# Altium integrated library Lattice Semiconductor ispMACH 4000ZE.IntLib: 56 symbols (part 3 of 3)
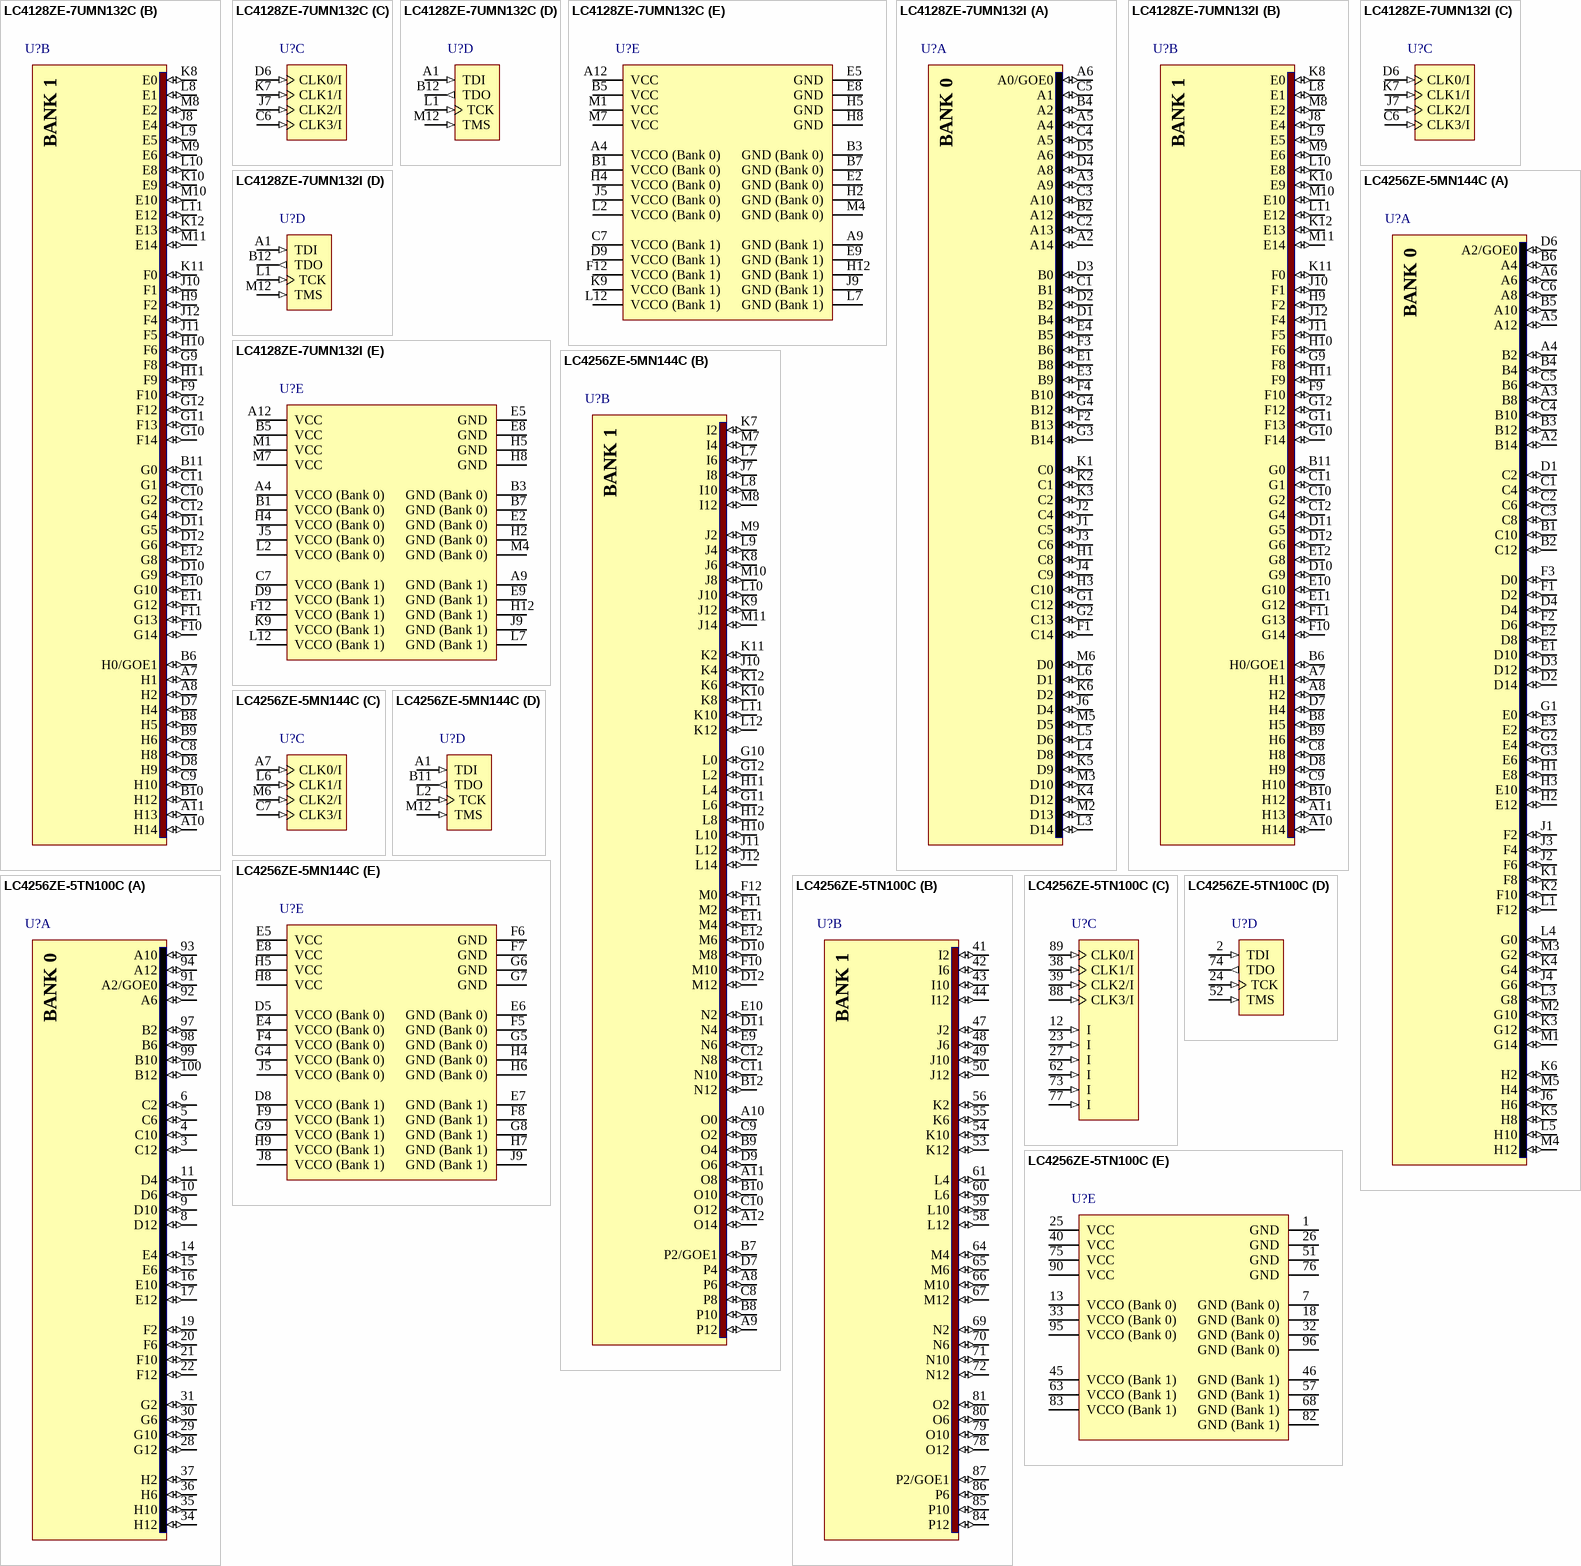
[diagram p16: symbols LC4128ZE-7UMN132C to LC4256ZE-5TN100C]

## LC4128ZE-7UMN132I
designator U?
ispMACH 4000ZE Ultra Low Power PLD, 1.8V, 96 User I/Os, 132-Pin ucBGA, 7.5ns, Industrial Grade, Pb-Free; DatasheetVersion: ver01.4, May-2009; PackageVersion: ver02.6, Nov-2010; PackageReference: ucBGA132; PackageDescription: 132-Ball ucBGA Package, 6 x 6 mm Body, 0.4 mm Pitch; ComponentLink1Description: Manufacturer URL; ComponentLink1URL: http://www.latticesemi.com/; ComponentLink2Description: Datasheet; ComponentLink2URL: http://www.latticesemi.com/documents/DS1022.pdf; ComponentLink3Description: Package Specification; ComponentLink3URL: http://www.latticesemi.com/lit/docs/package/pkg.pdf
footprint ucBGA132 (BGA, 132-Leads, Body 6x6mm, Pitch 0.4mm)
part A pins: A2 A14 (io), A3 A9 (io), A5 A4 (io), A6 A0/GOE0 (io), B2 A12 (io), B4 A2 (io), C1 B1 (io), C2 A13 (io), C3 A10 (io), C4 A5 (io), C5 A1 (io), D1 B4 (io), D2 B2 (io), D3 B0 (io), D4 A8 (io), D5 A6 (io), E1 B8 (io), E3 B9 (io), E4 B5 (io), F1 C14 (io), F2 B13 (io), F3 B6 (io), F4 B10 (io), G1 C12 (io), G2 C13 (io), G3 B14 (io), G4 B12 (io), H1 C8 (io), H3 C10 (io), J1 C5 (io), J2 C4 (io), J3 C6 (io), J4 C9 (io), J6 D4 (io), K1 C0 (io), K2 C1 (io), K3 C2 (io), K4 D12 (io), K5 D9 (io), K6 D2 (io), L3 D14 (io), L4 D8 (io), L5 D6 (io), L6 D1 (io), M2 D13 (io), M3 D10 (io), M5 D5 (io), M6 D0 (io)
part B pins: A7 H1 (io), A8 H2 (io), A10 H14 (io), A11 H13 (io), B6 H0/GOE1 (io), B8 H5 (io), B9 H6 (io), B10 H12 (io), B11 G0 (io), C8 H8 (io), C9 H10 (io), C10 G2 (io), C11 G1 (io), C12 G4 (io), D7 H4 (io), D8 H9 (io), D10 G9 (io), D11 G5 (io), D12 G6 (io), E10 G10 (io), E11 G12 (io), E12 G8 (io), F9 F10 (io), F10 G14 (io), F11 G13 (io), G9 F8 (io), G10 F14 (io), G11 F13 (io), G12 F12 (io), H9 F2 (io), H10 F6 (io), H11 F9 (io), J8 E4 (io), J10 F1 (io), J11 F5 (io), J12 F4 (io), K8 E0 (io), K10 E9 (io), K11 F0 (io), K12 E13 (io), L8 E1 (io), L9 E5 (io), L10 E8 (io), L11 E12 (io), M8 E2 (io), M9 E6 (io), M10 E10 (io), M11 E14 (io)
part C pins: C6 CLK3/I (in), D6 CLK0/I (in), J7 CLK2/I (in), K7 CLK1/I (in)
part D pins: A1 TDI (in), B12 TDO (out), L1 TCK (in), M12 TMS (in)
part E pins: A4 VCCO (Bank 0) (power), A9 GND (Bank 1) (power), A12 VCC (power), B1 VCCO (Bank 0) (power), B3 GND (Bank 0) (power), B5 VCC (power), B7 GND (Bank 0) (power), C7 VCCO (Bank 1) (power), D9 VCCO (Bank 1) (power), E2 GND (Bank 0) (power), E5 GND (power), E8 GND (power), E9 GND (Bank 1) (power), F12 VCCO (Bank 1) (power), H2 GND (Bank 0) (power), H4 VCCO (Bank 0) (power), H5 GND (power), H8 GND (power), H12 GND (Bank 1) (power), J5 VCCO (Bank 0) (power), J9 GND (Bank 1) (power), K9 VCCO (Bank 1) (power), L2 VCCO (Bank 0) (power), L7 GND (Bank 1) (power), L12 VCCO (Bank 1) (power), M1 VCC (power), M4 GND (Bank 0) (power), M7 VCC (power)
part A text: BANK 0
part B text: BANK 1

## LC4256ZE-5MN144C
designator U?
ispMACH 4000ZE Ultra Low Power PLD, 1.8V, 108 User I/Os, 144-Pin csBGA, 5.8ns, Commercial Grade, Pb-Free; DatasheetVersion: ver01.4, May-2009; PackageVersion: ver02.6, Nov-2010; PackageReference: csBGA144; PackageDescription: 144-Ball Chip Scale Ball Grid Array (csBGA144); ComponentLink1Description: Manufacturer URL; ComponentLink1URL: http://www.latticesemi.com/; ComponentLink2Description: Datasheet; ComponentLink2URL: http://www.latticesemi.com/documents/DS1022.pdf; ComponentLink3Description: Package Specification; ComponentLink3URL: http://www.latticesemi.com/lit/docs/package/pkg.pdf
footprint csBGA144 (BGA, 144-Leads, Body 7x7mm, Pitch 0.5mm)
part A pins: A2 B14 (io), A3 B8 (io), A4 B2 (io), A5 A12 (io), A6 (io), B1 C10 (io), B2 C12 (io), B3 B12 (io), B4 (io), B5 A10 (io), B6 A4 (io), C1 C4 (io), C2 C6 (io), C3 C8 (io), C4 B10 (io), C5 B6 (io), C6 A8 (io), D1 C2 (io), D2 D14 (io), D3 D12 (io), D4 (io), D6 A2/GOE0 (io), E1 D10 (io), E2 D8 (io), E3 E2 (io), F1 D2 (io), F2 D6 (io), F3 D0 (io), G1 E0 (io), G2 E4 (io), G3 E6 (io), H1 E8 (io), H2 E12 (io), H3 E10 (io), J1 F2 (io), J2 F6 (io), J3 F4 (io), J4 G6 (io), J6 H6 (io), K1 F8 (io), K2 F10 (io), K3 G12 (io), K4 G4 (io), K5 H8 (io), K6 H2 (io), L1 F12 (io), L3 G8 (io), L4 G0 (io), L5 H10 (io), M1 G14 (io), M2 G10 (io), M3 G2 (io), M4 H12 (io), M5 H4 (io)
part B pins: A8 P6 (io), A9 P12 (io), A10 O0 (io), A11 O8 (io), A12 O14 (io), B7 P2/GOE1 (io), B8 P10 (io), B9 O4 (io), B10 O10 (io), B12 N12 (io), C8 P8 (io), C9 O2 (io), C10 O12 (io), C11 N10 (io), C12 N8 (io), D7 P4 (io), D9 O6 (io), D10 M8 (io), D11 N4 (io), D12 M12 (io), E9 N6 (io), E10 N2 (io), E11 M4 (io), E12 M6 (io), F10 M10 (io), F11 M2 (io), F12 M0 (io), G10 L0 (io), G11 L6 (io), G12 L2 (io), H10 L10 (io), H11 L4 (io), H12 L8 (io), J7 I8 (io), J10 K4 (io), J11 L12 (io), J12 L14 (io), K7 I2 (io), K8 J6 (io), K9 J12 (io), K10 K8 (io), K11 K2 (io), K12 K6 (io), L7 I6 (io), L8 I10 (io), L9 J4 (io), L10 J10 (io), L11 K10 (io), L12 K12 (io), M7 I4 (io), M8 I12 (io), M9 J2 (io), M10 J8 (io), M11 J14 (io)
part C pins: A7 CLK0/I (in), C7 CLK3/I (in), L6 CLK1/I (in), M6 CLK2/I (in)
part D pins: A1 TDI (in), B11 TDO (out), L2 TCK (in), M12 TMS (in)
part E pins: D5 VCCO (Bank 0) (power), D8 VCCO (Bank 1) (power), E4 VCCO (Bank 0) (power), E5 VCC (power), E6 GND (Bank 0) (power), E7 GND (Bank 1) (power), E8 VCC (power), F4 VCCO (Bank 0) (power), F5 GND (Bank 0) (power), F6 GND (power), F7 GND (power), F8 GND (Bank 1) (power), F9 VCCO (Bank 1) (power), G4 VCCO (Bank 0) (power), G5 GND (Bank 0) (power), G6 GND (power), G7 GND (power), G8 GND (Bank 1) (power), G9 VCCO (Bank 1) (power), H4 GND (Bank 0) (power), H5 VCC (power), H6 GND (Bank 0) (power), H7 GND (Bank 1) (power), H8 VCC (power), H9 VCCO (Bank 1) (power), J5 VCCO (Bank 0) (power), J8 VCCO (Bank 1) (power), J9 GND (Bank 1) (power)
part A text: BANK 0
part B text: BANK 1

## LC4256ZE-5TN100C
designator U?
ispMACH 4000ZE Ultra Low Power PLD, 1.8V, 64 User I/Os, 100-Pin TQFP, 5.8ns, Commercial Grade, Pb-Free; DatasheetVersion: ver01.4, May-2009; PackageVersion: ver02.8, Jul-2011; PackageReference: TQFP100; PackageDescription: 100-Pin Thin Quad Flat Pack (TQFP100); Code_JEDEC: MS-026-BED; ComponentLink1Description: Manufacturer URL; ComponentLink1URL: http://www.latticesemi.com/; ComponentLink2Description: Datasheet; ComponentLink2URL: http://www.latticesemi.com/documents/DS1022.pdf; ComponentLink3Description: Package Specification; ComponentLink3URL: http://www.latticesemi.com/lit/docs/package/pkg.pdf
footprint TQFP100_N (Thin QFP, 100-Leads, Body 14x14mm, Pitch 0.5mm, IPC Medium Density)
footprint TQFP100_L (Thin QFP, 100-Leads, Body 14x14mm, Pitch 0.5mm, IPC High Density)
footprint TQFP100_M (Thin QFP, 100-Leads, Body 14x14mm, Pitch 0.5mm, IPC Low Density)
part A pins: 3 C12 (io), 4 C10 (io), 5 C6 (io), 6 C2 (io), 8 D12 (io), 9 D10 (io), 10 D6 (io), 11 D4 (io), 14 E4 (io), 15 E6 (io), 16 E10 (io), 17 E12 (io), 19 F2 (io), 20 F6 (io), 21 F10 (io), 22 F12 (io), 28 G12 (io), 29 G10 (io), 30 G6 (io), 31 G2 (io), 34 H12 (io), 35 H10 (io), 36 H6 (io), 37 H2 (io), 91 A2/GOE0 (io), 92 A6 (io), 93 A10 (io), 94 A12 (io), 97 B2 (io), 98 B6 (io), 99 B10 (io), 100 B12 (io)
part B pins: 41 I2 (io), 42 I6 (io), 43 I10 (io), 44 I12 (io), 47 J2 (io), 48 J6 (io), 49 J10 (io), 50 J12 (io), 53 K12 (io), 54 K10 (io), 55 K6 (io), 56 K2 (io), 58 L12 (io), 59 L10 (io), 60 L6 (io), 61 L4 (io), 64 M4 (io), 65 M6 (io), 66 M10 (io), 67 M12 (io), 69 N2 (io), 70 N6 (io), 71 N10 (io), 72 N12 (io), 78 O12 (io), 79 O10 (io), 80 O6 (io), 81 O2 (io), 84 P12 (io), 85 P10 (io), 86 P6 (io), 87 P2/GOE1 (io)
part C pins: 12 I (in), 23 I (in), 27 I (in), 38 CLK1/I (in), 39 CLK2/I (in), 62 I (in), 73 I (in), 77 I (in), 88 CLK3/I (in), 89 CLK0/I (in)
part D pins: 2 TDI (in), 24 TCK (in), 52 TMS (in), 74 TDO (out)
part E pins: 1 GND (power), 7 GND (Bank 0) (power), 13 VCCO (Bank 0) (power), 18 GND (Bank 0) (power), 25 VCC (power), 26 GND (power), 32 GND (Bank 0) (power), 33 VCCO (Bank 0) (power), 40 VCC (power), 45 VCCO (Bank 1) (power), 46 GND (Bank 1) (power), 51 GND (power), 57 GND (Bank 1) (power), 63 VCCO (Bank 1) (power), 68 GND (Bank 1) (power), 75 VCC (power), 76 GND (power), 82 GND (Bank 1) (power), 83 VCCO (Bank 1) (power), 90 VCC (power), 95 VCCO (Bank 0) (power), 96 GND (Bank 0) (power)
part A text: BANK 0
part B text: BANK 1

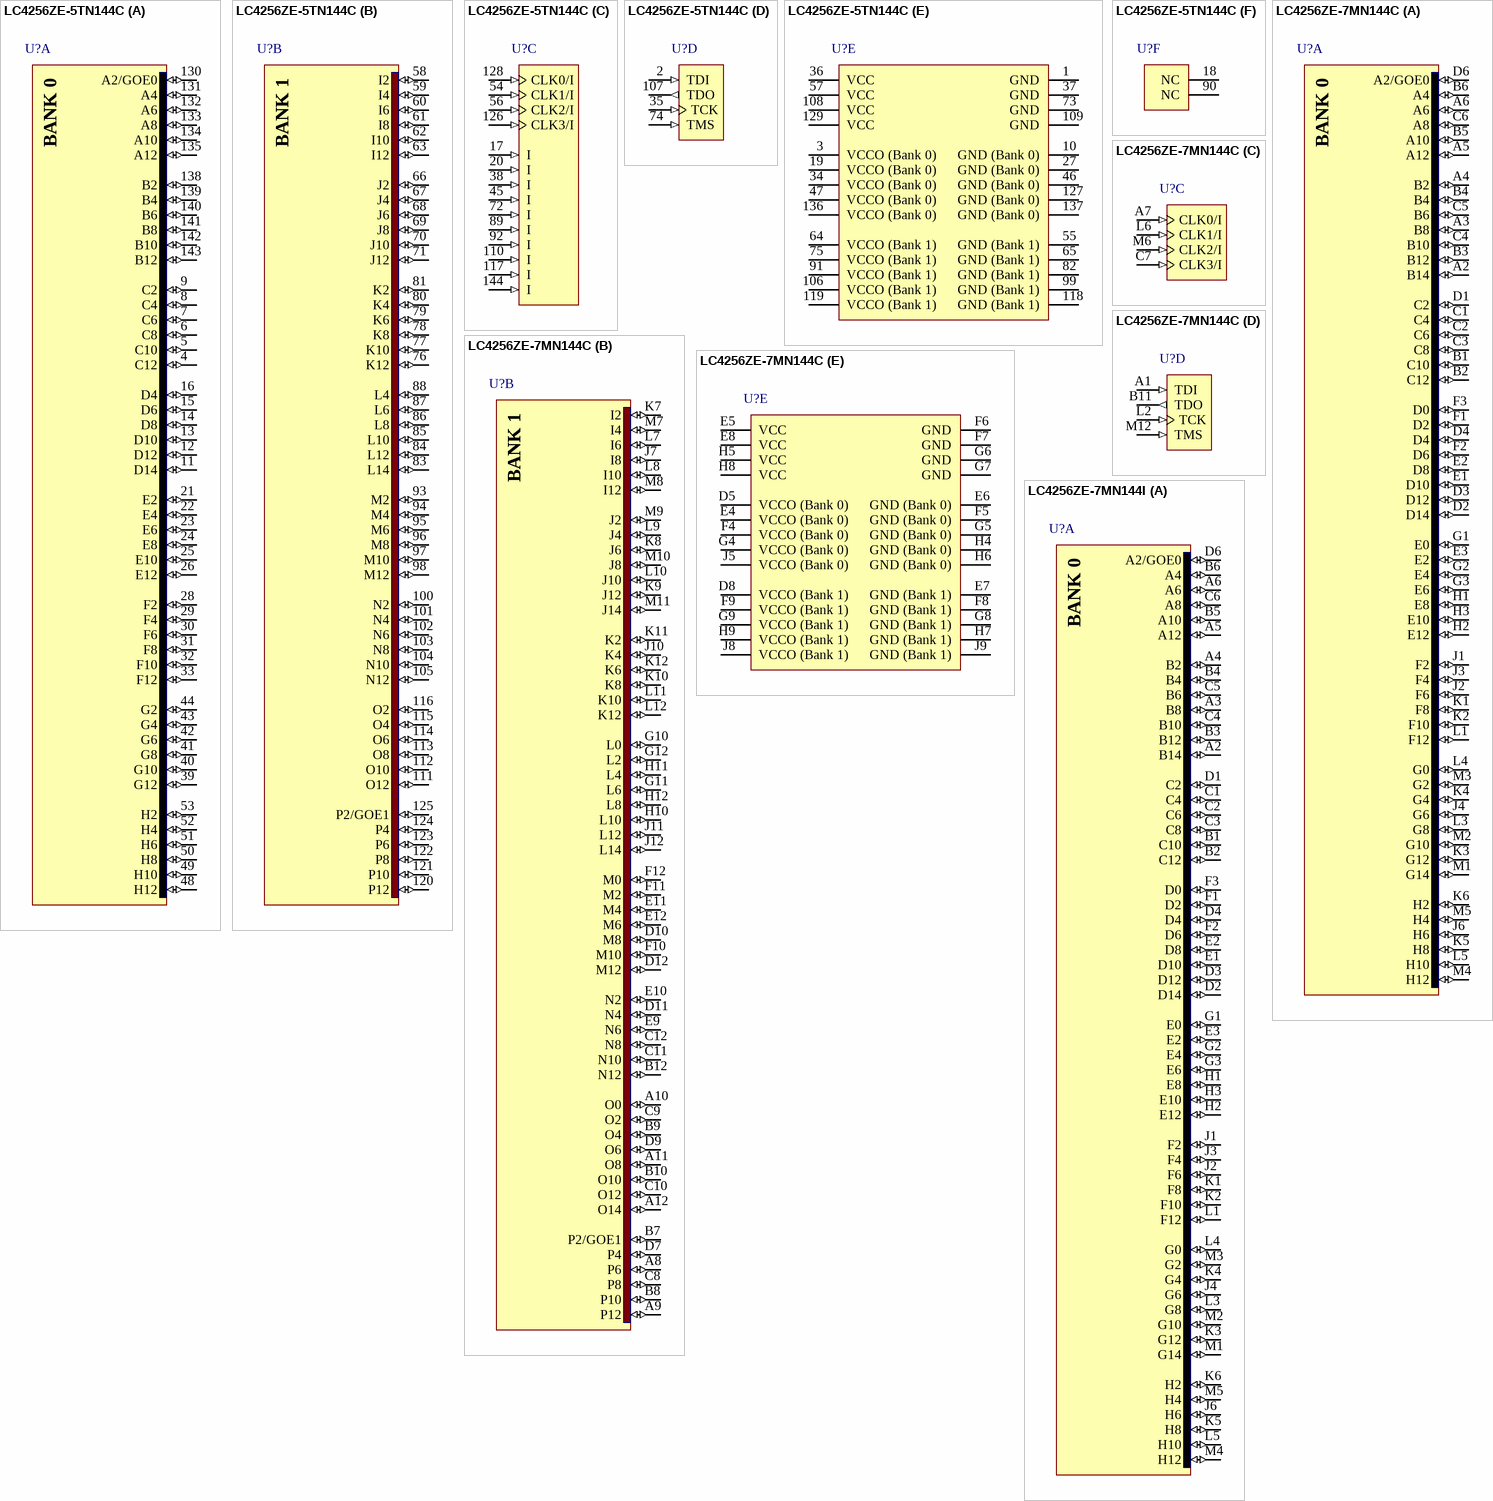
[diagram p12: symbols LC4256ZE-5TN144C to LC4256ZE-7MN144I]

## LC4256ZE-5TN144C
designator U?
ispMACH 4000ZE Ultra Low Power PLD, 1.8V, 96 User I/Os, 144-Pin TQFP, 5.8ns, Commercial Grade, Pb-Free; DatasheetVersion: ver01.4, May-2009; PackageVersion: ver02.8, Jul-2011; PackageReference: TQFP144; PackageDescription: 144-Pin Thin Quad Flat Pack (TQFP144); Code_JEDEC: MS-026-BFB; ComponentLink1Description: Manufacturer URL; ComponentLink1URL: http://www.latticesemi.com/; ComponentLink2Description: Datasheet; ComponentLink2URL: http://www.latticesemi.com/documents/DS1022.pdf; ComponentLink3Description: Package Specification; ComponentLink3URL: http://www.latticesemi.com/lit/docs/package/pkg.pdf
footprint TQFP144_N (Thin QFP, 144-Leads, Body 20x20mm, Pitch 0.5mm, IPC Medium Density)
footprint TQFP144_L (Thin QFP, 144-Leads, Body 20x20mm, Pitch 0.5mm, IPC High Density)
footprint TQFP144_M (Thin QFP, 144-Leads, Body 20x20mm, Pitch 0.5mm, IPC Low Density)
part A pins: 4 C12 (io), 5 C10 (io), 6 C8 (io), 7 C6 (io), 8 C4 (io), 9 C2 (io), 11 D14 (io), 12 D12 (io), 13 D10 (io), 14 D8 (io), 15 D6 (io), 16 D4 (io), 21 E2 (io), 22 E4 (io), 23 E6 (io), 24 E8 (io), 25 E10 (io), 26 E12 (io), 28 F2 (io), 29 F4 (io), 30 F6 (io), 31 F8 (io), 32 F10 (io), 33 F12 (io), 39 G12 (io), 40 G10 (io), 41 G8 (io), 42 G6 (io), 43 G4 (io), 44 G2 (io), 48 H12 (io), 49 H10 (io), 50 H8 (io), 51 H6 (io), 52 H4 (io), 53 H2 (io), 130 A2/GOE0 (io), 131 A4 (io), 132 A6 (io), 133 A8 (io), 134 A10 (io), 135 A12 (io), 138 B2 (io), 139 B4 (io), 140 B6 (io), 141 B8 (io), 142 B10 (io), 143 B12 (io)
part B pins: 58 I2 (io), 59 I4 (io), 60 I6 (io), 61 I8 (io), 62 I10 (io), 63 I12 (io), 66 J2 (io), 67 J4 (io), 68 J6 (io), 69 J8 (io), 70 J10 (io), 71 J12 (io), 76 K12 (io), 77 K10 (io), 78 K8 (io), 79 K6 (io), 80 K4 (io), 81 K2 (io), 83 L14 (io), 84 L12 (io), 85 L10 (io), 86 L8 (io), 87 L6 (io), 88 L4 (io), 93 M2 (io), 94 M4 (io), 95 M6 (io), 96 M8 (io), 97 M10 (io), 98 M12 (io), 100 N2 (io), 101 N4 (io), 102 N6 (io), 103 N8 (io), 104 N10 (io), 105 N12 (io), 111 O12 (io), 112 O10 (io), 113 O8 (io), 114 O6 (io), 115 O4 (io), 116 O2 (io), 120 P12 (io), 121 P10 (io), 122 P8 (io), 123 P6 (io), 124 P4 (io), 125 P2/GOE1 (io)
part C pins: 17 I (in), 20 I (in), 38 I (in), 45 I (in), 54 CLK1/I (in), 56 CLK2/I (in), 72 I (in), 89 I (in), 92 I (in), 110 I (in), 117 I (in), 126 CLK3/I (in), 128 CLK0/I (in), 144 I (in)
part D pins: 2 TDI (in), 35 TCK (in), 74 TMS (in), 107 TDO (out)
part E pins: 1 GND (power), 3 VCCO (Bank 0) (power), 10 GND (Bank 0) (power), 19 VCCO (Bank 0) (power), 27 GND (Bank 0) (power), 34 VCCO (Bank 0) (power), 36 VCC (power), 37 GND (power), 46 GND (Bank 0) (power), 47 VCCO (Bank 0) (power), 55 GND (Bank 1) (power), 57 VCC (power), 64 VCCO (Bank 1) (power), 65 GND (Bank 1) (power), 73 GND (power), 75 VCCO (Bank 1) (power), 82 GND (Bank 1) (power), 91 VCCO (Bank 1) (power), 99 GND (Bank 1) (power), 106 VCCO (Bank 1) (power), 108 VCC (power), 109 GND (power), 118 GND (Bank 1) (power), 119 VCCO (Bank 1) (power), 127 GND (Bank 0) (power), 129 VCC (power), 136 VCCO (Bank 0) (power), 137 GND (Bank 0) (power)
part F pins: 18 NC, 90 NC
part A text: BANK 0
part B text: BANK 1

## LC4256ZE-7MN144C
designator U?
ispMACH 4000ZE Ultra Low Power PLD, 1.8V, 108 User I/Os, 144-Pin csBGA, 7.5ns, Commercial Grade, Pb-Free; DatasheetVersion: ver01.4, May-2009; PackageVersion: ver02.6, Nov-2010; PackageReference: csBGA144; PackageDescription: 144-Ball Chip Scale Ball Grid Array (csBGA144); ComponentLink1Description: Manufacturer URL; ComponentLink1URL: http://www.latticesemi.com/; ComponentLink2Description: Datasheet; ComponentLink2URL: http://www.latticesemi.com/documents/DS1022.pdf; ComponentLink3Description: Package Specification; ComponentLink3URL: http://www.latticesemi.com/lit/docs/package/pkg.pdf
footprint csBGA144 (BGA, 144-Leads, Body 7x7mm, Pitch 0.5mm)
part A pins: A2 B14 (io), A3 B8 (io), A4 B2 (io), A5 A12 (io), A6 (io), B1 C10 (io), B2 C12 (io), B3 B12 (io), B4 (io), B5 A10 (io), B6 A4 (io), C1 C4 (io), C2 C6 (io), C3 C8 (io), C4 B10 (io), C5 B6 (io), C6 A8 (io), D1 C2 (io), D2 D14 (io), D3 D12 (io), D4 (io), D6 A2/GOE0 (io), E1 D10 (io), E2 D8 (io), E3 E2 (io), F1 D2 (io), F2 D6 (io), F3 D0 (io), G1 E0 (io), G2 E4 (io), G3 E6 (io), H1 E8 (io), H2 E12 (io), H3 E10 (io), J1 F2 (io), J2 F6 (io), J3 F4 (io), J4 G6 (io), J6 H6 (io), K1 F8 (io), K2 F10 (io), K3 G12 (io), K4 G4 (io), K5 H8 (io), K6 H2 (io), L1 F12 (io), L3 G8 (io), L4 G0 (io), L5 H10 (io), M1 G14 (io), M2 G10 (io), M3 G2 (io), M4 H12 (io), M5 H4 (io)
part B pins: A8 P6 (io), A9 P12 (io), A10 O0 (io), A11 O8 (io), A12 O14 (io), B7 P2/GOE1 (io), B8 P10 (io), B9 O4 (io), B10 O10 (io), B12 N12 (io), C8 P8 (io), C9 O2 (io), C10 O12 (io), C11 N10 (io), C12 N8 (io), D7 P4 (io), D9 O6 (io), D10 M8 (io), D11 N4 (io), D12 M12 (io), E9 N6 (io), E10 N2 (io), E11 M4 (io), E12 M6 (io), F10 M10 (io), F11 M2 (io), F12 M0 (io), G10 L0 (io), G11 L6 (io), G12 L2 (io), H10 L10 (io), H11 L4 (io), H12 L8 (io), J7 I8 (io), J10 K4 (io), J11 L12 (io), J12 L14 (io), K7 I2 (io), K8 J6 (io), K9 J12 (io), K10 K8 (io), K11 K2 (io), K12 K6 (io), L7 I6 (io), L8 I10 (io), L9 J4 (io), L10 J10 (io), L11 K10 (io), L12 K12 (io), M7 I4 (io), M8 I12 (io), M9 J2 (io), M10 J8 (io), M11 J14 (io)
part C pins: A7 CLK0/I (in), C7 CLK3/I (in), L6 CLK1/I (in), M6 CLK2/I (in)
part D pins: A1 TDI (in), B11 TDO (out), L2 TCK (in), M12 TMS (in)
part E pins: D5 VCCO (Bank 0) (power), D8 VCCO (Bank 1) (power), E4 VCCO (Bank 0) (power), E5 VCC (power), E6 GND (Bank 0) (power), E7 GND (Bank 1) (power), E8 VCC (power), F4 VCCO (Bank 0) (power), F5 GND (Bank 0) (power), F6 GND (power), F7 GND (power), F8 GND (Bank 1) (power), F9 VCCO (Bank 1) (power), G4 VCCO (Bank 0) (power), G5 GND (Bank 0) (power), G6 GND (power), G7 GND (power), G8 GND (Bank 1) (power), G9 VCCO (Bank 1) (power), H4 GND (Bank 0) (power), H5 VCC (power), H6 GND (Bank 0) (power), H7 GND (Bank 1) (power), H8 VCC (power), H9 VCCO (Bank 1) (power), J5 VCCO (Bank 0) (power), J8 VCCO (Bank 1) (power), J9 GND (Bank 1) (power)
part A text: BANK 0
part B text: BANK 1

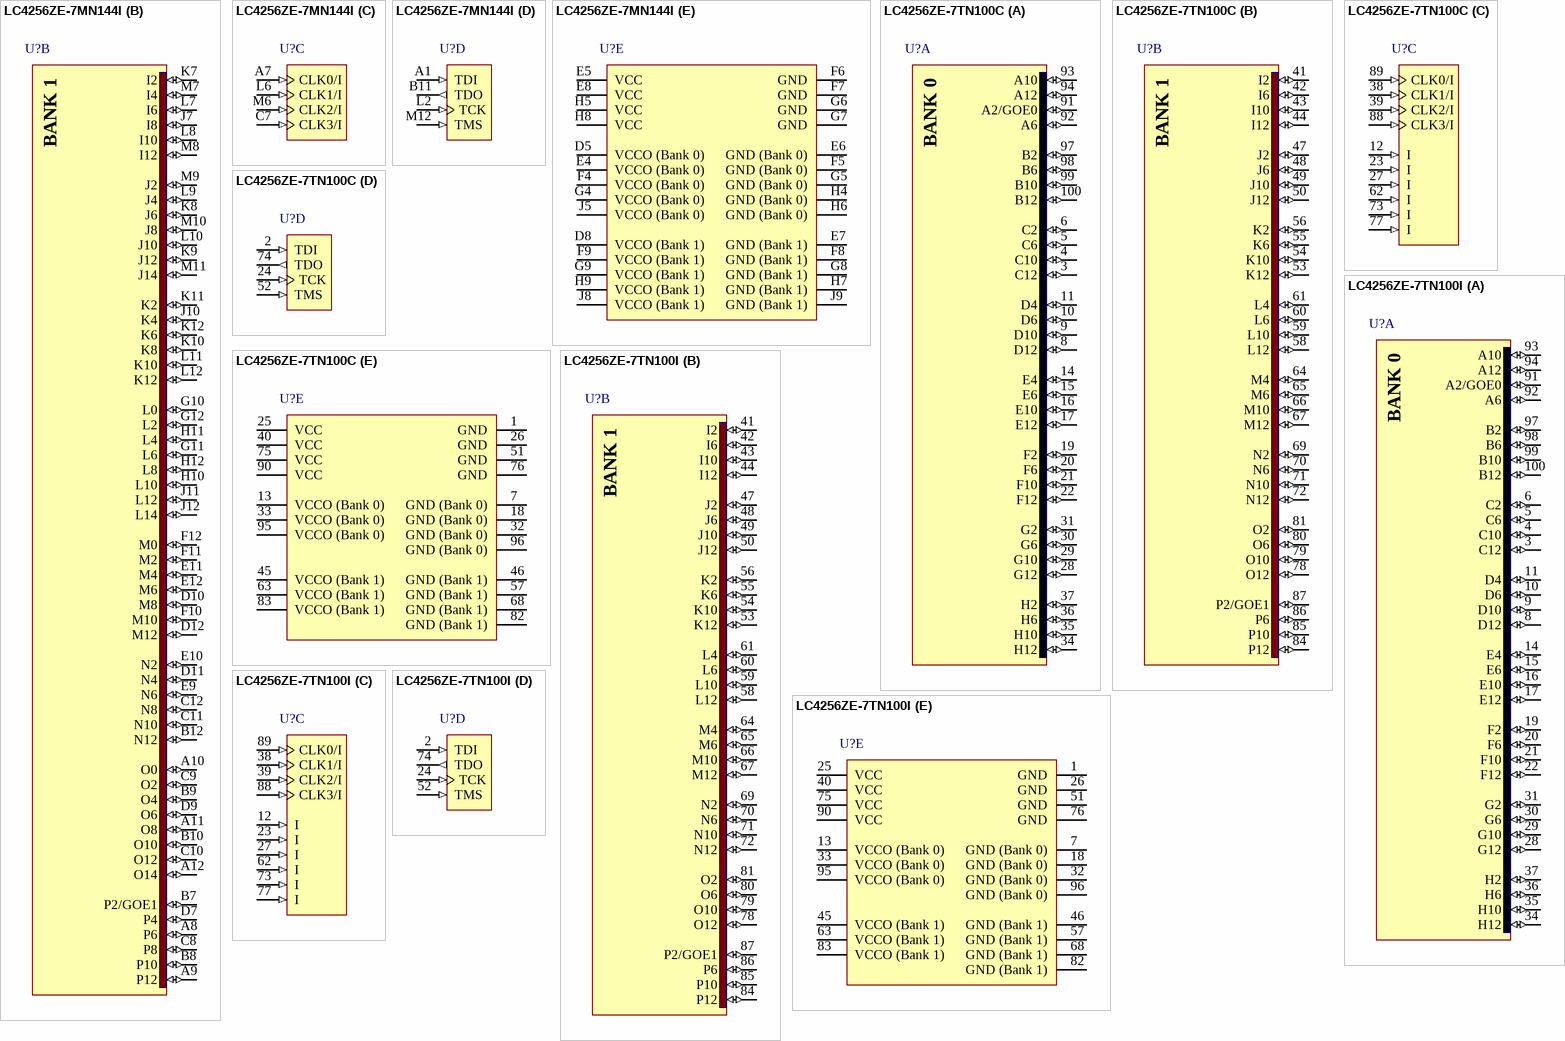
[diagram p13: symbols LC4256ZE-7MN144I to LC4256ZE-7TN100I]

## LC4256ZE-7MN144I
designator U?
ispMACH 4000ZE Ultra Low Power PLD, 1.8V, 108 User I/Os, 144-Pin csBGA, 7.5ns, Industrial Grade, Pb-Free; DatasheetVersion: ver01.4, May-2009; PackageVersion: ver02.6, Nov-2010; PackageReference: csBGA144; PackageDescription: 144-Ball Chip Scale Ball Grid Array (csBGA144); ComponentLink1Description: Manufacturer URL; ComponentLink1URL: http://www.latticesemi.com/; ComponentLink2Description: Datasheet; ComponentLink2URL: http://www.latticesemi.com/documents/DS1022.pdf; ComponentLink3Description: Package Specification; ComponentLink3URL: http://www.latticesemi.com/lit/docs/package/pkg.pdf
footprint csBGA144 (BGA, 144-Leads, Body 7x7mm, Pitch 0.5mm)
part A pins: A2 B14 (io), A3 B8 (io), A4 B2 (io), A5 A12 (io), A6 (io), B1 C10 (io), B2 C12 (io), B3 B12 (io), B4 (io), B5 A10 (io), B6 A4 (io), C1 C4 (io), C2 C6 (io), C3 C8 (io), C4 B10 (io), C5 B6 (io), C6 A8 (io), D1 C2 (io), D2 D14 (io), D3 D12 (io), D4 (io), D6 A2/GOE0 (io), E1 D10 (io), E2 D8 (io), E3 E2 (io), F1 D2 (io), F2 D6 (io), F3 D0 (io), G1 E0 (io), G2 E4 (io), G3 E6 (io), H1 E8 (io), H2 E12 (io), H3 E10 (io), J1 F2 (io), J2 F6 (io), J3 F4 (io), J4 G6 (io), J6 H6 (io), K1 F8 (io), K2 F10 (io), K3 G12 (io), K4 G4 (io), K5 H8 (io), K6 H2 (io), L1 F12 (io), L3 G8 (io), L4 G0 (io), L5 H10 (io), M1 G14 (io), M2 G10 (io), M3 G2 (io), M4 H12 (io), M5 H4 (io)
part B pins: A8 P6 (io), A9 P12 (io), A10 O0 (io), A11 O8 (io), A12 O14 (io), B7 P2/GOE1 (io), B8 P10 (io), B9 O4 (io), B10 O10 (io), B12 N12 (io), C8 P8 (io), C9 O2 (io), C10 O12 (io), C11 N10 (io), C12 N8 (io), D7 P4 (io), D9 O6 (io), D10 M8 (io), D11 N4 (io), D12 M12 (io), E9 N6 (io), E10 N2 (io), E11 M4 (io), E12 M6 (io), F10 M10 (io), F11 M2 (io), F12 M0 (io), G10 L0 (io), G11 L6 (io), G12 L2 (io), H10 L10 (io), H11 L4 (io), H12 L8 (io), J7 I8 (io), J10 K4 (io), J11 L12 (io), J12 L14 (io), K7 I2 (io), K8 J6 (io), K9 J12 (io), K10 K8 (io), K11 K2 (io), K12 K6 (io), L7 I6 (io), L8 I10 (io), L9 J4 (io), L10 J10 (io), L11 K10 (io), L12 K12 (io), M7 I4 (io), M8 I12 (io), M9 J2 (io), M10 J8 (io), M11 J14 (io)
part C pins: A7 CLK0/I (in), C7 CLK3/I (in), L6 CLK1/I (in), M6 CLK2/I (in)
part D pins: A1 TDI (in), B11 TDO (out), L2 TCK (in), M12 TMS (in)
part E pins: D5 VCCO (Bank 0) (power), D8 VCCO (Bank 1) (power), E4 VCCO (Bank 0) (power), E5 VCC (power), E6 GND (Bank 0) (power), E7 GND (Bank 1) (power), E8 VCC (power), F4 VCCO (Bank 0) (power), F5 GND (Bank 0) (power), F6 GND (power), F7 GND (power), F8 GND (Bank 1) (power), F9 VCCO (Bank 1) (power), G4 VCCO (Bank 0) (power), G5 GND (Bank 0) (power), G6 GND (power), G7 GND (power), G8 GND (Bank 1) (power), G9 VCCO (Bank 1) (power), H4 GND (Bank 0) (power), H5 VCC (power), H6 GND (Bank 0) (power), H7 GND (Bank 1) (power), H8 VCC (power), H9 VCCO (Bank 1) (power), J5 VCCO (Bank 0) (power), J8 VCCO (Bank 1) (power), J9 GND (Bank 1) (power)
part A text: BANK 0
part B text: BANK 1

## LC4256ZE-7TN100C
designator U?
ispMACH 4000ZE Ultra Low Power PLD, 1.8V, 64 User I/Os, 100-Pin TQFP, 7.5ns, Commercial Grade, Pb-Free; DatasheetVersion: ver01.4, May-2009; PackageVersion: ver02.8, Jul-2011; PackageReference: TQFP100; PackageDescription: 100-Pin Thin Quad Flat Pack (TQFP100); Code_JEDEC: MS-026-BED; ComponentLink1Description: Manufacturer URL; ComponentLink1URL: http://www.latticesemi.com/; ComponentLink2Description: Datasheet; ComponentLink2URL: http://www.latticesemi.com/documents/DS1022.pdf; ComponentLink3Description: Package Specification; ComponentLink3URL: http://www.latticesemi.com/lit/docs/package/pkg.pdf
footprint TQFP100_N (Thin QFP, 100-Leads, Body 14x14mm, Pitch 0.5mm, IPC Medium Density)
footprint TQFP100_L (Thin QFP, 100-Leads, Body 14x14mm, Pitch 0.5mm, IPC High Density)
footprint TQFP100_M (Thin QFP, 100-Leads, Body 14x14mm, Pitch 0.5mm, IPC Low Density)
part A pins: 3 C12 (io), 4 C10 (io), 5 C6 (io), 6 C2 (io), 8 D12 (io), 9 D10 (io), 10 D6 (io), 11 D4 (io), 14 E4 (io), 15 E6 (io), 16 E10 (io), 17 E12 (io), 19 F2 (io), 20 F6 (io), 21 F10 (io), 22 F12 (io), 28 G12 (io), 29 G10 (io), 30 G6 (io), 31 G2 (io), 34 H12 (io), 35 H10 (io), 36 H6 (io), 37 H2 (io), 91 A2/GOE0 (io), 92 A6 (io), 93 A10 (io), 94 A12 (io), 97 B2 (io), 98 B6 (io), 99 B10 (io), 100 B12 (io)
part B pins: 41 I2 (io), 42 I6 (io), 43 I10 (io), 44 I12 (io), 47 J2 (io), 48 J6 (io), 49 J10 (io), 50 J12 (io), 53 K12 (io), 54 K10 (io), 55 K6 (io), 56 K2 (io), 58 L12 (io), 59 L10 (io), 60 L6 (io), 61 L4 (io), 64 M4 (io), 65 M6 (io), 66 M10 (io), 67 M12 (io), 69 N2 (io), 70 N6 (io), 71 N10 (io), 72 N12 (io), 78 O12 (io), 79 O10 (io), 80 O6 (io), 81 O2 (io), 84 P12 (io), 85 P10 (io), 86 P6 (io), 87 P2/GOE1 (io)
part C pins: 12 I (in), 23 I (in), 27 I (in), 38 CLK1/I (in), 39 CLK2/I (in), 62 I (in), 73 I (in), 77 I (in), 88 CLK3/I (in), 89 CLK0/I (in)
part D pins: 2 TDI (in), 24 TCK (in), 52 TMS (in), 74 TDO (out)
part E pins: 1 GND (power), 7 GND (Bank 0) (power), 13 VCCO (Bank 0) (power), 18 GND (Bank 0) (power), 25 VCC (power), 26 GND (power), 32 GND (Bank 0) (power), 33 VCCO (Bank 0) (power), 40 VCC (power), 45 VCCO (Bank 1) (power), 46 GND (Bank 1) (power), 51 GND (power), 57 GND (Bank 1) (power), 63 VCCO (Bank 1) (power), 68 GND (Bank 1) (power), 75 VCC (power), 76 GND (power), 82 GND (Bank 1) (power), 83 VCCO (Bank 1) (power), 90 VCC (power), 95 VCCO (Bank 0) (power), 96 GND (Bank 0) (power)
part A text: BANK 0
part B text: BANK 1

## LC4256ZE-7TN100I
designator U?
ispMACH 4000ZE Ultra Low Power PLD, 1.8V, 64 User I/Os, 100-Pin TQFP, 7.5ns, Industrial Grade, Pb-Free; DatasheetVersion: ver01.4, May-2009; PackageVersion: ver02.8, Jul-2011; PackageReference: TQFP100; PackageDescription: 100-Pin Thin Quad Flat Pack (TQFP100); Code_JEDEC: MS-026-BED; ComponentLink1Description: Manufacturer URL; ComponentLink1URL: http://www.latticesemi.com/; ComponentLink2Description: Datasheet; ComponentLink2URL: http://www.latticesemi.com/documents/DS1022.pdf; ComponentLink3Description: Package Specification; ComponentLink3URL: http://www.latticesemi.com/lit/docs/package/pkg.pdf
footprint TQFP100_N (Thin QFP, 100-Leads, Body 14x14mm, Pitch 0.5mm, IPC Medium Density)
footprint TQFP100_L (Thin QFP, 100-Leads, Body 14x14mm, Pitch 0.5mm, IPC High Density)
footprint TQFP100_M (Thin QFP, 100-Leads, Body 14x14mm, Pitch 0.5mm, IPC Low Density)
part A pins: 3 C12 (io), 4 C10 (io), 5 C6 (io), 6 C2 (io), 8 D12 (io), 9 D10 (io), 10 D6 (io), 11 D4 (io), 14 E4 (io), 15 E6 (io), 16 E10 (io), 17 E12 (io), 19 F2 (io), 20 F6 (io), 21 F10 (io), 22 F12 (io), 28 G12 (io), 29 G10 (io), 30 G6 (io), 31 G2 (io), 34 H12 (io), 35 H10 (io), 36 H6 (io), 37 H2 (io), 91 A2/GOE0 (io), 92 A6 (io), 93 A10 (io), 94 A12 (io), 97 B2 (io), 98 B6 (io), 99 B10 (io), 100 B12 (io)
part B pins: 41 I2 (io), 42 I6 (io), 43 I10 (io), 44 I12 (io), 47 J2 (io), 48 J6 (io), 49 J10 (io), 50 J12 (io), 53 K12 (io), 54 K10 (io), 55 K6 (io), 56 K2 (io), 58 L12 (io), 59 L10 (io), 60 L6 (io), 61 L4 (io), 64 M4 (io), 65 M6 (io), 66 M10 (io), 67 M12 (io), 69 N2 (io), 70 N6 (io), 71 N10 (io), 72 N12 (io), 78 O12 (io), 79 O10 (io), 80 O6 (io), 81 O2 (io), 84 P12 (io), 85 P10 (io), 86 P6 (io), 87 P2/GOE1 (io)
part C pins: 12 I (in), 23 I (in), 27 I (in), 38 CLK1/I (in), 39 CLK2/I (in), 62 I (in), 73 I (in), 77 I (in), 88 CLK3/I (in), 89 CLK0/I (in)
part D pins: 2 TDI (in), 24 TCK (in), 52 TMS (in), 74 TDO (out)
part E pins: 1 GND (power), 7 GND (Bank 0) (power), 13 VCCO (Bank 0) (power), 18 GND (Bank 0) (power), 25 VCC (power), 26 GND (power), 32 GND (Bank 0) (power), 33 VCCO (Bank 0) (power), 40 VCC (power), 45 VCCO (Bank 1) (power), 46 GND (Bank 1) (power), 51 GND (power), 57 GND (Bank 1) (power), 63 VCCO (Bank 1) (power), 68 GND (Bank 1) (power), 75 VCC (power), 76 GND (power), 82 GND (Bank 1) (power), 83 VCCO (Bank 1) (power), 90 VCC (power), 95 VCCO (Bank 0) (power), 96 GND (Bank 0) (power)
part A text: BANK 0
part B text: BANK 1

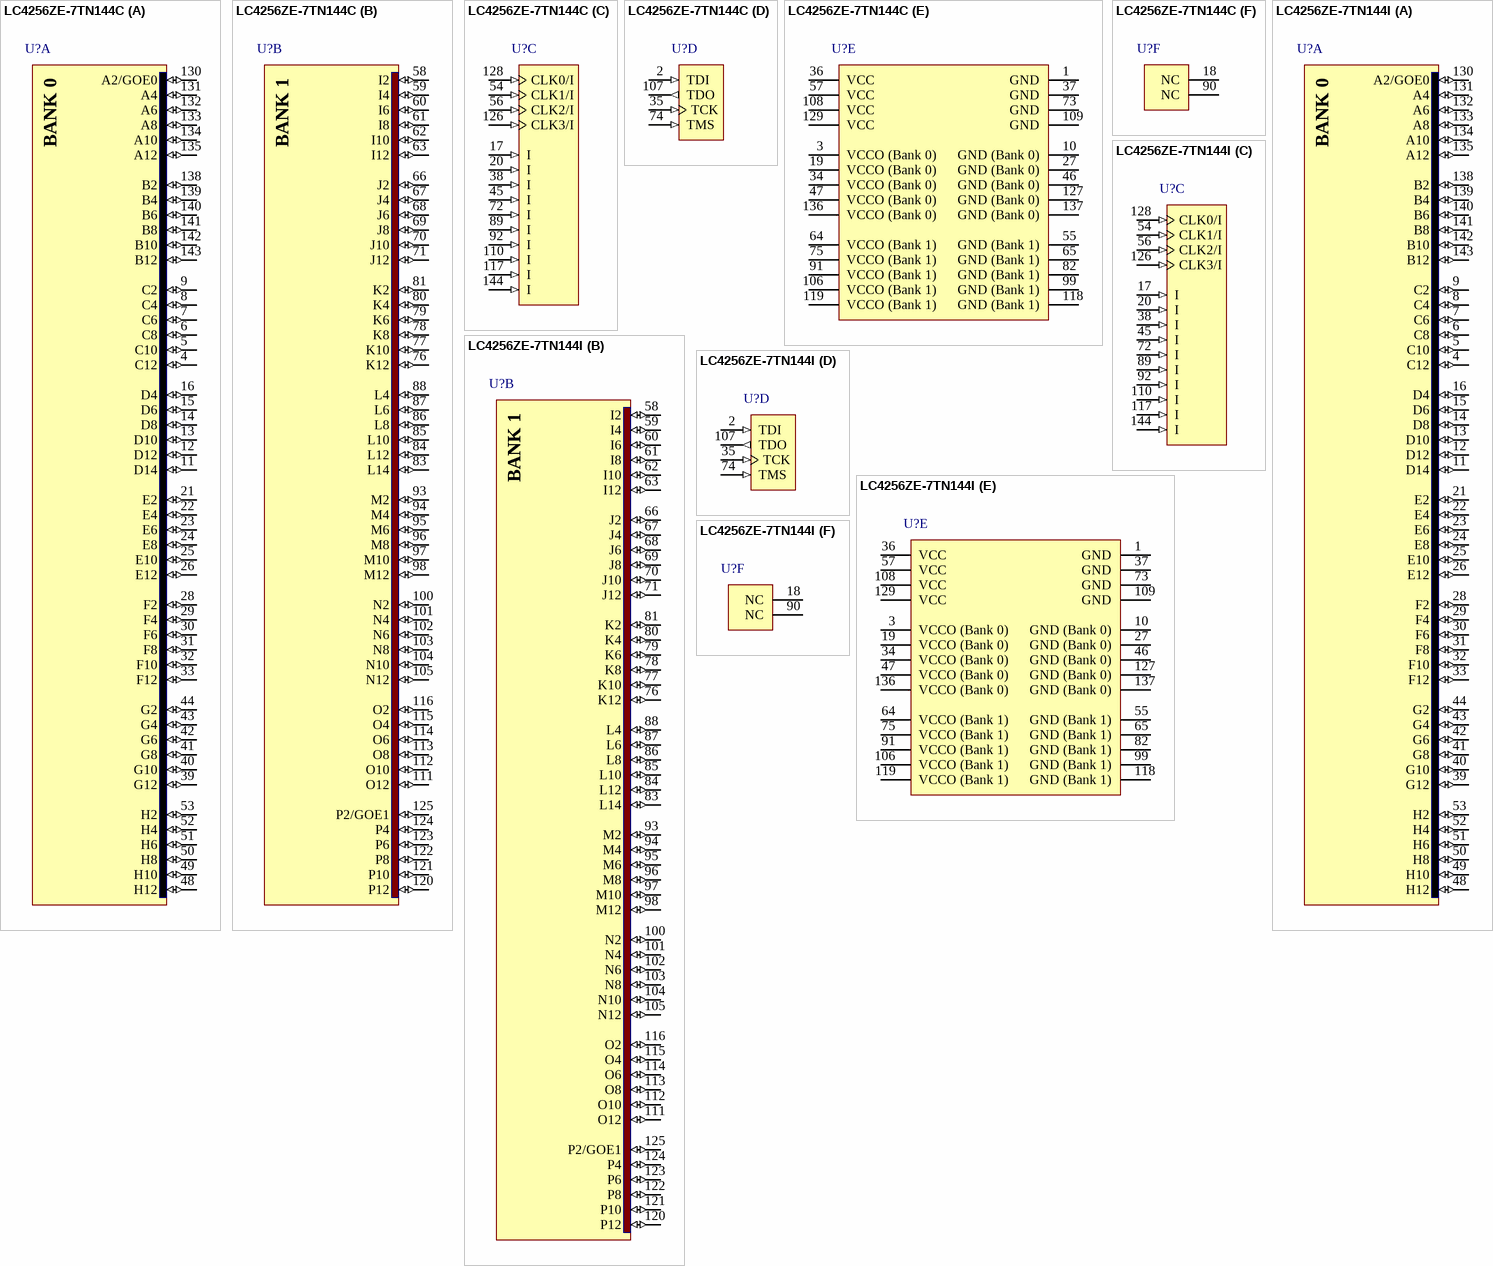
[diagram p14: symbols LC4256ZE-7TN144C to LC4256ZE-7TN144I]

## LC4256ZE-7TN144C
designator U?
ispMACH 4000ZE Ultra Low Power PLD, 1.8V, 96 User I/Os, 144-Pin TQFP, 7.5ns, Commercial Grade, Pb-Free; DatasheetVersion: ver01.4, May-2009; PackageVersion: ver02.8, Jul-2011; PackageReference: TQFP144; PackageDescription: 144-Pin Thin Quad Flat Pack (TQFP144); Code_JEDEC: MS-026-BFB; ComponentLink1Description: Manufacturer URL; ComponentLink1URL: http://www.latticesemi.com/; ComponentLink2Description: Datasheet; ComponentLink2URL: http://www.latticesemi.com/documents/DS1022.pdf; ComponentLink3Description: Package Specification; ComponentLink3URL: http://www.latticesemi.com/lit/docs/package/pkg.pdf
footprint TQFP144_N (Thin QFP, 144-Leads, Body 20x20mm, Pitch 0.5mm, IPC Medium Density)
footprint TQFP144_L (Thin QFP, 144-Leads, Body 20x20mm, Pitch 0.5mm, IPC High Density)
footprint TQFP144_M (Thin QFP, 144-Leads, Body 20x20mm, Pitch 0.5mm, IPC Low Density)
part A pins: 4 C12 (io), 5 C10 (io), 6 C8 (io), 7 C6 (io), 8 C4 (io), 9 C2 (io), 11 D14 (io), 12 D12 (io), 13 D10 (io), 14 D8 (io), 15 D6 (io), 16 D4 (io), 21 E2 (io), 22 E4 (io), 23 E6 (io), 24 E8 (io), 25 E10 (io), 26 E12 (io), 28 F2 (io), 29 F4 (io), 30 F6 (io), 31 F8 (io), 32 F10 (io), 33 F12 (io), 39 G12 (io), 40 G10 (io), 41 G8 (io), 42 G6 (io), 43 G4 (io), 44 G2 (io), 48 H12 (io), 49 H10 (io), 50 H8 (io), 51 H6 (io), 52 H4 (io), 53 H2 (io), 130 A2/GOE0 (io), 131 A4 (io), 132 A6 (io), 133 A8 (io), 134 A10 (io), 135 A12 (io), 138 B2 (io), 139 B4 (io), 140 B6 (io), 141 B8 (io), 142 B10 (io), 143 B12 (io)
part B pins: 58 I2 (io), 59 I4 (io), 60 I6 (io), 61 I8 (io), 62 I10 (io), 63 I12 (io), 66 J2 (io), 67 J4 (io), 68 J6 (io), 69 J8 (io), 70 J10 (io), 71 J12 (io), 76 K12 (io), 77 K10 (io), 78 K8 (io), 79 K6 (io), 80 K4 (io), 81 K2 (io), 83 L14 (io), 84 L12 (io), 85 L10 (io), 86 L8 (io), 87 L6 (io), 88 L4 (io), 93 M2 (io), 94 M4 (io), 95 M6 (io), 96 M8 (io), 97 M10 (io), 98 M12 (io), 100 N2 (io), 101 N4 (io), 102 N6 (io), 103 N8 (io), 104 N10 (io), 105 N12 (io), 111 O12 (io), 112 O10 (io), 113 O8 (io), 114 O6 (io), 115 O4 (io), 116 O2 (io), 120 P12 (io), 121 P10 (io), 122 P8 (io), 123 P6 (io), 124 P4 (io), 125 P2/GOE1 (io)
part C pins: 17 I (in), 20 I (in), 38 I (in), 45 I (in), 54 CLK1/I (in), 56 CLK2/I (in), 72 I (in), 89 I (in), 92 I (in), 110 I (in), 117 I (in), 126 CLK3/I (in), 128 CLK0/I (in), 144 I (in)
part D pins: 2 TDI (in), 35 TCK (in), 74 TMS (in), 107 TDO (out)
part E pins: 1 GND (power), 3 VCCO (Bank 0) (power), 10 GND (Bank 0) (power), 19 VCCO (Bank 0) (power), 27 GND (Bank 0) (power), 34 VCCO (Bank 0) (power), 36 VCC (power), 37 GND (power), 46 GND (Bank 0) (power), 47 VCCO (Bank 0) (power), 55 GND (Bank 1) (power), 57 VCC (power), 64 VCCO (Bank 1) (power), 65 GND (Bank 1) (power), 73 GND (power), 75 VCCO (Bank 1) (power), 82 GND (Bank 1) (power), 91 VCCO (Bank 1) (power), 99 GND (Bank 1) (power), 106 VCCO (Bank 1) (power), 108 VCC (power), 109 GND (power), 118 GND (Bank 1) (power), 119 VCCO (Bank 1) (power), 127 GND (Bank 0) (power), 129 VCC (power), 136 VCCO (Bank 0) (power), 137 GND (Bank 0) (power)
part F pins: 18 NC, 90 NC
part A text: BANK 0
part B text: BANK 1

## LC4256ZE-7TN144I
designator U?
ispMACH 4000ZE Ultra Low Power PLD, 1.8V, 96 User I/Os, 144-Pin TQFP, 7.5ns, Industrial Grade, Pb-Free; DatasheetVersion: ver01.4, May-2009; PackageVersion: ver02.8, Jul-2011; PackageReference: TQFP144; PackageDescription: 144-Pin Thin Quad Flat Pack (TQFP144); Code_JEDEC: MS-026-BFB; ComponentLink1Description: Manufacturer URL; ComponentLink1URL: http://www.latticesemi.com/; ComponentLink2Description: Datasheet; ComponentLink2URL: http://www.latticesemi.com/documents/DS1022.pdf; ComponentLink3Description: Package Specification; ComponentLink3URL: http://www.latticesemi.com/lit/docs/package/pkg.pdf
footprint TQFP144_N (Thin QFP, 144-Leads, Body 20x20mm, Pitch 0.5mm, IPC Medium Density)
footprint TQFP144_L (Thin QFP, 144-Leads, Body 20x20mm, Pitch 0.5mm, IPC High Density)
footprint TQFP144_M (Thin QFP, 144-Leads, Body 20x20mm, Pitch 0.5mm, IPC Low Density)
part A pins: 4 C12 (io), 5 C10 (io), 6 C8 (io), 7 C6 (io), 8 C4 (io), 9 C2 (io), 11 D14 (io), 12 D12 (io), 13 D10 (io), 14 D8 (io), 15 D6 (io), 16 D4 (io), 21 E2 (io), 22 E4 (io), 23 E6 (io), 24 E8 (io), 25 E10 (io), 26 E12 (io), 28 F2 (io), 29 F4 (io), 30 F6 (io), 31 F8 (io), 32 F10 (io), 33 F12 (io), 39 G12 (io), 40 G10 (io), 41 G8 (io), 42 G6 (io), 43 G4 (io), 44 G2 (io), 48 H12 (io), 49 H10 (io), 50 H8 (io), 51 H6 (io), 52 H4 (io), 53 H2 (io), 130 A2/GOE0 (io), 131 A4 (io), 132 A6 (io), 133 A8 (io), 134 A10 (io), 135 A12 (io), 138 B2 (io), 139 B4 (io), 140 B6 (io), 141 B8 (io), 142 B10 (io), 143 B12 (io)
part B pins: 58 I2 (io), 59 I4 (io), 60 I6 (io), 61 I8 (io), 62 I10 (io), 63 I12 (io), 66 J2 (io), 67 J4 (io), 68 J6 (io), 69 J8 (io), 70 J10 (io), 71 J12 (io), 76 K12 (io), 77 K10 (io), 78 K8 (io), 79 K6 (io), 80 K4 (io), 81 K2 (io), 83 L14 (io), 84 L12 (io), 85 L10 (io), 86 L8 (io), 87 L6 (io), 88 L4 (io), 93 M2 (io), 94 M4 (io), 95 M6 (io), 96 M8 (io), 97 M10 (io), 98 M12 (io), 100 N2 (io), 101 N4 (io), 102 N6 (io), 103 N8 (io), 104 N10 (io), 105 N12 (io), 111 O12 (io), 112 O10 (io), 113 O8 (io), 114 O6 (io), 115 O4 (io), 116 O2 (io), 120 P12 (io), 121 P10 (io), 122 P8 (io), 123 P6 (io), 124 P4 (io), 125 P2/GOE1 (io)
part C pins: 17 I (in), 20 I (in), 38 I (in), 45 I (in), 54 CLK1/I (in), 56 CLK2/I (in), 72 I (in), 89 I (in), 92 I (in), 110 I (in), 117 I (in), 126 CLK3/I (in), 128 CLK0/I (in), 144 I (in)
part D pins: 2 TDI (in), 35 TCK (in), 74 TMS (in), 107 TDO (out)
part E pins: 1 GND (power), 3 VCCO (Bank 0) (power), 10 GND (Bank 0) (power), 19 VCCO (Bank 0) (power), 27 GND (Bank 0) (power), 34 VCCO (Bank 0) (power), 36 VCC (power), 37 GND (power), 46 GND (Bank 0) (power), 47 VCCO (Bank 0) (power), 55 GND (Bank 1) (power), 57 VCC (power), 64 VCCO (Bank 1) (power), 65 GND (Bank 1) (power), 73 GND (power), 75 VCCO (Bank 1) (power), 82 GND (Bank 1) (power), 91 VCCO (Bank 1) (power), 99 GND (Bank 1) (power), 106 VCCO (Bank 1) (power), 108 VCC (power), 109 GND (power), 118 GND (Bank 1) (power), 119 VCCO (Bank 1) (power), 127 GND (Bank 0) (power), 129 VCC (power), 136 VCCO (Bank 0) (power), 137 GND (Bank 0) (power)
part F pins: 18 NC, 90 NC
part A text: BANK 0
part B text: BANK 1